# Altium schematic symbol library Dev Board Connectors.SchLib: 1 symbol
Pins are listed as number, name and electrical type; pins without a type are passive.

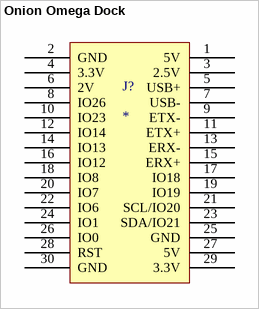
[diagram p0: symbol Onion Omega Dock]

## Onion Omega Dock
designator J?
pins: 1 5V, 2 GND, 3 2.5V, 4 3.3V, 5 USB+, 6 2V, 7 USB-, 8 IO26, 9 ETX-, 10 IO23, 11 ETX+, 12 IO14, 13 ERX-, 14 IO13, 15 ERX+, 16 IO12, 17 IO18, 18 IO8, 19 IO19, 20 IO7, 21 SCL/IO20, 22 IO6, 23 SDA/IO21, 24 IO1, 25 GND, 26 IO0, 27 5V, 28 RST, 29 3.3V, 30 GND